# Altium footprint library MyPcbLib.PcbLib: 65 footprints (part 4 of 5)
Each footprint in its own frame and in the unit in brackets; x right, y up, seen from the top. Pads: shape width x height; smd on the part's side, far side on the other; paste and mask are expansions set on the pad; w line width, h text height; cw(c..) or ccw(c..) is an arc to the next point about the centre after c.
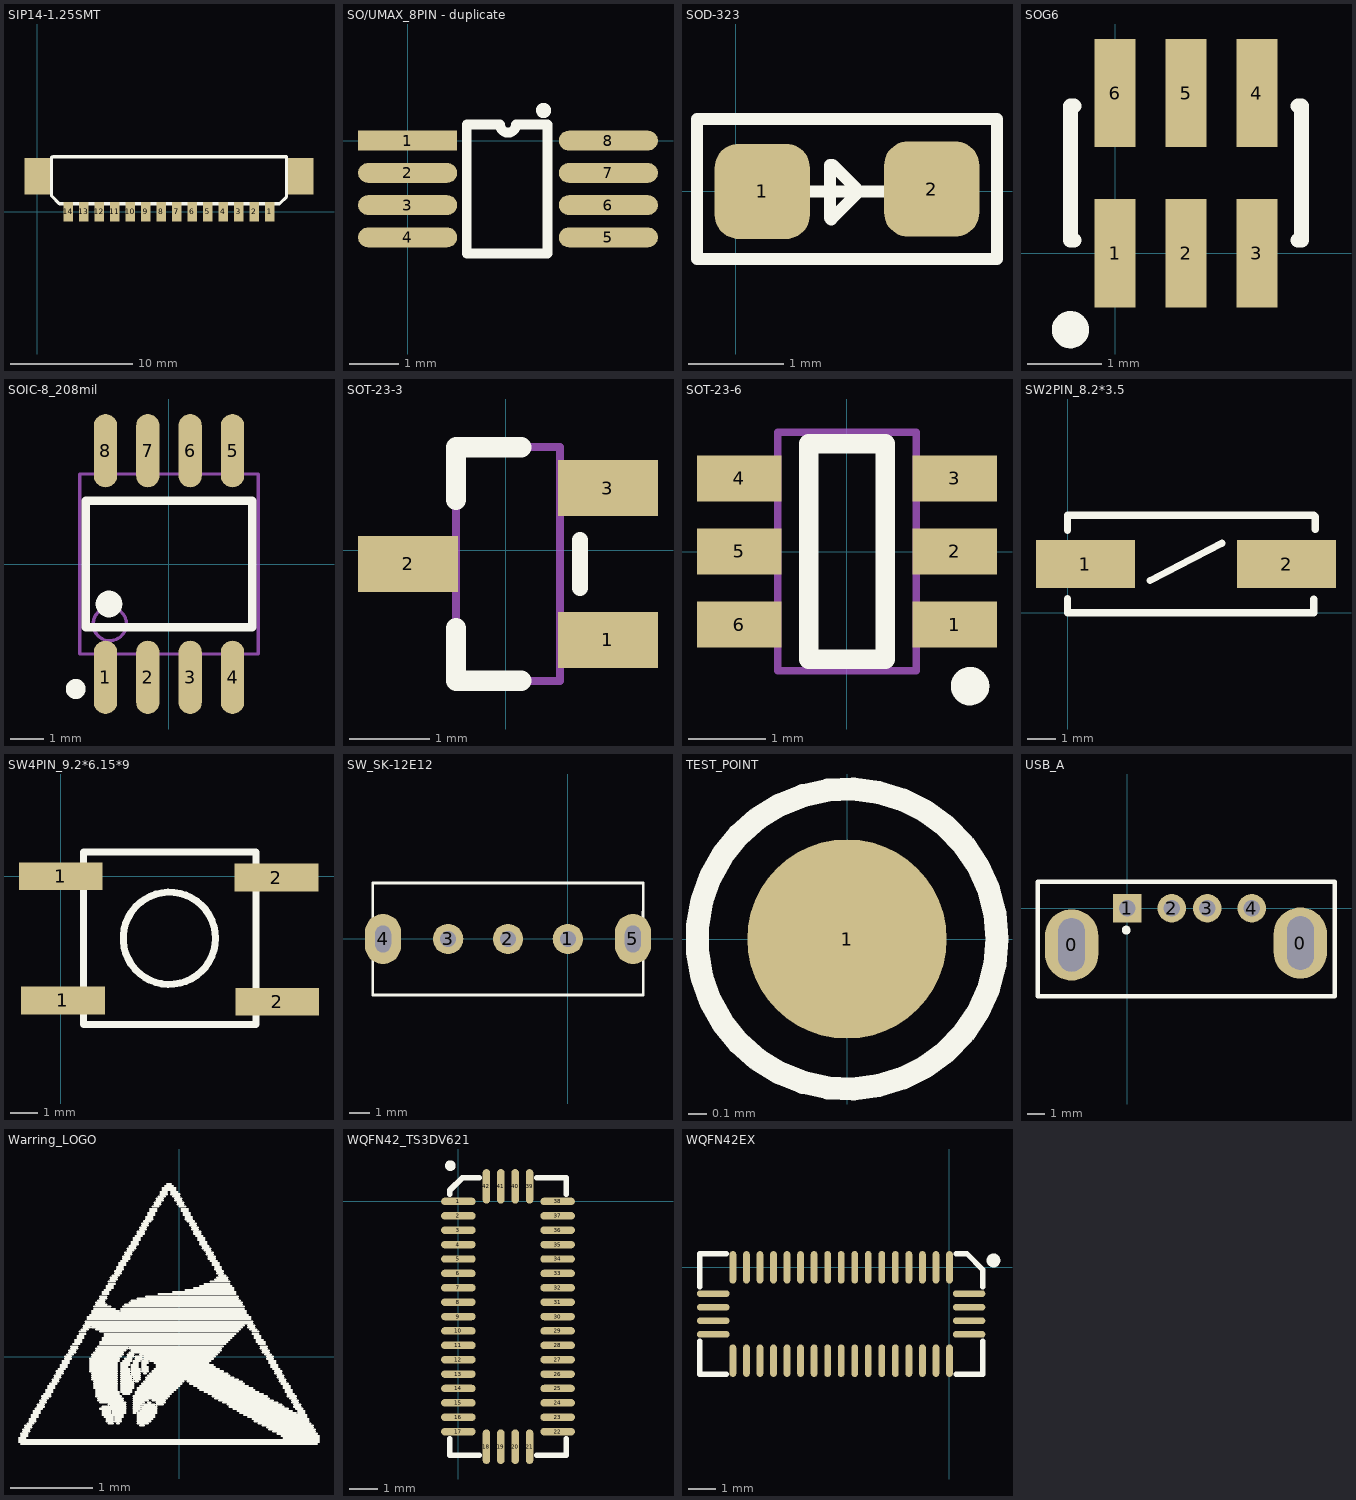
[diagram p3: the footprints below, top view; thin cyan lines are the x and y axes]

## SIP14-1.25SMT [mm] "SOIC, 32-Leads, Body 15.0x7.5mm (max), Pitch 1.27mm, IPC Medium Density"
height 2.65
pads (16):
  rect 0.8x1.6 smd: 1(19.05,0) 2(17.78,0) 3(16.51,0) 4(15.24,0) 5(13.97,0) 6(12.7,0) 7(11.43,0) 8(10.16,0) 9(8.89,0) 10(7.62,0) 11(6.35,0) 12(5.08,0) 13(3.81,0) 14(2.54,0)
  rect 2.1x3 smd: ""(-0.01,2.9) ""(21.6,2.9)
Top Overlay:
  lines w0.254: 1.168,4.47 1.168,1.27 1.803,0.635 19.863,0.635 20.447,1.219 20.447,4.496 1.295,4.496
3D body "DF13C-6P-1.25V.stp": height 4.77, standoff -0.03, extent 3.831,-0.557 15.981,4.343

## SO/UMAX_8PIN - duplicate [mm]
height 1.1
pads (8):
  rect 2x0.4 smd: 1(0,0)
  oval 2x0.4 smd: 2(0,-0.65) 3(0,-1.3) 4(0,-1.95) 5(4.05,-1.95) 6(4.05,-1.3) 7(4.05,-0.65) 8(4.05,0)
Top Overlay:
  circle w0.254: c2.743,0.61 r0.025
  lines w0.2: 1.194,-2.275 2.819,-2.275 2.819,0.325 2.188,0.325 cw(c2.025,0.325) 1.862,0.325 1.194,0.325 1.194,-2.275
3D body "SW3dPS-uMAX8.STEP": height 0.95, standoff 0, extent -0.483,-2.489 4.518,0.511

## SOD-323 [mm]
pads (2):
  rrect50% 1x1 smd: 1(0.279,0) 2(2.057,0.025)
Top Overlay:
  lines w0.127: 0.787,0 1.549,0 ; 2.718,-0.711 -0.406,-0.711 -0.406,0.762 2.743,0.762 2.743,-0.711 ; 0.991,-0.279 0.991,0.279 1.016,0.279 1.27,0.025 1.27,-0.025 1.003,-0.292 0.991,-0.279

## SOG6 [mm]
pads (6):
  rect 0.55x1.45 smd: 1(0,0) 2(0.95,0) 3(1.9,0) 4(1.9,2.15) 5(0.95,2.15) 6(0,2.15)
Top Overlay:
  circle w0.25: c-0.6,-1.025 r0.125
  lines w0.2: -0.55,0.175 -0.6,0.175 -0.6,1.975 -0.55,1.975 ; 2.45,0.175 2.5,0.175 2.5,1.975 2.45,1.975

## SOIC-8_208mil [mm]
pads (8):
  oval 0.7x2.2 smd: 1(-1.905,-3.4) 2(-0.635,-3.4) 3(0.635,-3.4) 4(1.905,-3.4) 5(1.905,3.4) 6(0.635,3.4) 7(-0.635,3.4) 8(-1.905,3.4)
Top Overlay:
  circle w0.4: c-1.8,-1.2 r0.2
  circle w0.3: c-2.797,-3.75 r0.15
  lines w0.254: -2.5,-1.9 2.5,-1.9 2.5,1.9 -2.5,1.9 -2.5,-1.9
Mechanical 13:
  circle w0.1: c-1.775,-1.8 r0.5
  lines w0.1: -2.675,-2.7 2.675,-2.7 2.675,2.7 -2.675,2.7 -2.675,-2.7

## SOT-23-3 [mm]
pads (3):
  rect 1.25x0.7 smd: 1(1.275,-1.125) 2(-1.225,-0.175) 3(1.275,0.775)
Top Overlay:
  lines w0.2: 0.925,-0.475 0.925,0.125
  lines w0.254: -0.625,-0.975 -0.625,-1.635 0.19,-1.635 ; 0.19,1.285 -0.625,1.285 ; -0.625,0.625 -0.625,1.285 ; -0.625,0.625 -0.625,1.285 ; -0.625,0.625 -0.625,1.285
Mechanical 13:
  lines w0.1: -0.625,-1.635 -0.625,1.285 ; -0.625,-1.635 0.675,-1.635 ; -0.625,-1.635 0.675,-1.635 ; -0.625,-1.635 -0.625,1.285 ; -0.625,-1.635 0.675,-1.635 ; -0.625,-1.635 -0.625,1.285 ; -0.625,1.285 0.675,1.285 ; -0.625,1.285 0.675,1.285 ; -0.625,1.285 0.675,1.285 ; 0.675,-1.635 0.675,1.285 ; 0.675,-1.635 0.675,1.285 ; 0.675,-1.635 0.675,1.285
3D body "SOT-23.step": height 1.3, standoff 0, extent -1.475,-1.675 1.525,1.325

## SOT-23-6 [mm]
pads (6):
  rect 1.1x0.6 smd: 1(1.4,-0.95) 2(1.4,0) 3(1.4,0.95) 4(-1.4,0.95) 5(-1.4,0) 6(-1.4,-0.95)
Top Overlay:
  circle w0.25: c1.6,-1.75 r0.125
  lines w0.254: -0.5,-1.4 -0.5,1.4 0.5,1.4 0.5,-1.4 -0.5,-1.4
Mechanical 13:
  lines w0.1: -0.9,-1.55 -0.9,1.55 0.9,1.55 0.9,-1.55 -0.9,-1.55

## SW2PIN_8.2*3.5 [mm]
pads (2):
  rect 3.5x1.7 smd: 1(0.635,1.727) 2(7.747,1.727)
Top Overlay:
  lines w0.254: 0,0.508 0,0 8.712,0 8.712,0.483 ; 0,2.921 0,3.048 0,3.454 8.712,3.454 ; 2.921,1.143 5.461,2.464 ; 8.763,2.946 8.763,3.404

## SW4PIN_9.2*6.15*9 [mm]
pads (4):
  rect 3x1 smd: 1(0,0) 1(0.076,-4.445) 2(7.722,-0.051) 2(7.747,-4.496)
Top Overlay:
  circle w0.254: c3.886,-2.222 r1.653
  lines w0.254: 0.813,-5.309 0.813,0.864 6.985,0.864 6.985,-5.309 1.041,-5.309 0.94,-5.309 0.813,-5.309

## SW_SK-12E12 [mil]
pads (5):
  round 60 hole 31.5: 1(0,0) 2(-118,0) 3(-236,0)
  oval 70.87x98.43 hole 31.5 slot 52.76 at 90 deg: 4(-364,0) 5(128,0)
Top Overlay:
  lines w5: -383.69,0 -364,0 ; 147.69,0 148,110.24 -384,110.24 -384,0 -384,-110.24 148,-110.24 148.31,0
3D body: height 236.22, standoff 0, extent -385,-110 147,110
3D body: height 98.43, standoff 88.58, extent -125,-306 13,-110

## TEST_POINT [mm]
pads (1):
  round 1.1 smd: 1(0,0)
Top Overlay:
  circle w0.127: c0,0 r0.827

## USB_A [mm]
pads (6):
  oval 3x4 hole 1.5 slot 3 at 90 deg: 0(-3.124,-2.057) 0(9.728,-1.956)
  rect 1.6x1.6 hole 0.93: 1(0,0)
  round 1.6 hole 0.93: 2(2.5,0) 3(4.5,0) 4(7,0)
Top Overlay:
  circle w0.25: c-0.056,-1.228 r0.125
  lines w0.254: -5.029,-4.953 11.659,-4.953 11.659,1.499 -5.029,1.499 -5.029,-3.759 -5.029,-4.953
3D body: height 11, standoff 0, extent -5.08,-4.928 11.684,1.524

## Via [mm]
via 0,0 diameter 4.2 hole 2.2

## Warring_LOGO [mm]
Top Overlay:
  drawing of 395 lines, arcs and shapes, not listed

## WQFN42_TS3DV621 [mm]
pads (42):
  oval 1.2x0.26 smd: 1(0,0) 2(0,-0.5) 3(0,-1) 4(0,-1.5) 5(0,-2) 6(0,-2.5) 7(0,-3) 8(0,-3.5) 9(0,-4) 10(0,-4.5) 11(0,-5) 12(0,-5.5) 13(0,-6) 14(0,-6.5) 15(0,-7) 16(0,-7.5) 17(0,-8) 22(3.45,-8) 23(3.45,-7.5) 24(3.45,-7) 25(3.45,-6.5) 26(3.45,-6) 27(3.45,-5.5) 28(3.45,-5) 29(3.45,-4.5) 30(3.45,-4) 31(3.45,-3.5) 32(3.45,-3) 33(3.45,-2.5) 34(3.45,-2) 35(3.45,-1.5) 36(3.45,-1) 37(3.45,-0.5) 38(3.45,0)
  oval 0.26x1.2 smd: 18(0.975,-8.525) 19(1.475,-8.525) 20(1.975,-8.525) 21(2.475,-8.525) 39(2.475,0.525) 40(1.975,0.525) 41(1.475,0.525) 42(0.975,0.525)
Top Overlay:
  circle w0.254: c-0.279,1.245 r0.057
  lines w0.2: -0.3,-8.25 -0.3,-8.825 0.725,-8.825 ; -0.3,0.25 -0.3,0.386 0.139,0.825 0.725,0.825 ; 2.725,-8.825 3.75,-8.825 3.75,-8.25 ; 2.725,0.825 3.75,0.825 3.75,0.25

## WQFN42EX [mm]
pads (42):
  oval 0.25x1.2 smd: 1(0,0) 2(-0.5,0) 3(-1,0) 4(-1.5,0) 5(-2,0) 6(-2.5,0) 7(-3,0) 8(-3.5,0) 9(-4,0) 10(-4.5,0) 11(-5,0) 12(-5.5,0) 13(-6,0) 14(-6.5,0) 15(-7,0) 16(-7.5,0) 17(-8,0) 22(-8,-3.45) 23(-7.5,-3.45) 24(-7,-3.45) 25(-6.5,-3.45) 26(-6,-3.45) 27(-5.5,-3.45) 28(-5,-3.45) 29(-4.5,-3.45) 30(-4,-3.45) 31(-3.5,-3.45) 32(-3,-3.45) 33(-2.5,-3.45) 34(-2,-3.45) 35(-1.5,-3.45) 36(-1,-3.45) 37(-0.5,-3.45) 38(0,-3.45)
  oval 1.2x0.25 smd: 18(-8.725,-0.975) 19(-8.725,-1.475) 20(-8.725,-1.975) 21(-8.725,-2.475) 39(0.725,-2.475) 40(0.725,-1.975) 41(0.725,-1.475) 42(0.725,-0.975)
Top Overlay:
  circle w0.254: c1.626,0.254 r0.13
  lines w0.2: -9.225,-2.725 -9.225,-3.95 -8.25,-3.95 ; -9.225,-0.725 -9.225,0.5 -8.25,0.5 ; 0.25,-3.95 1.225,-3.95 1.225,-2.725 ; 0.25,0.5 0.643,0.5 1.225,-0.082 1.225,-0.725
3D body: height 0.7, standoff 0.1, extent -9.093,-3.81 1.067,0.356